# Altium schematic symbol library SN74LVC4245ADBR.SchLib: 2 symbols
Pins are listed as number, name and electrical type; pins without a type are passive.

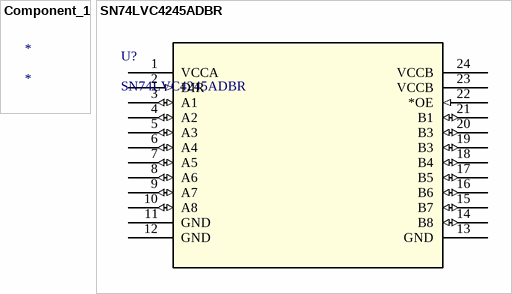
[diagram p0: symbols Component_1 to SN74LVC4245ADBR]

## Component_1
designator *

## SN74LVC4245ADBR
designator U?
Octal Bus Transceiver And 3.3-V To 5-V Shifter With 3-State Outputs; Manufacturer: Texas Instruments; INDUSTRY_STD_PKG_TYPE: SSOP; FAMILY_NAME: DIRECTION CONTROL DUAL SUPPLY TRANSLATOR; PIN_COUNT: 24; PACKAGE_DESIGNATOR: DB; Datasheet_URL: http://www.ti.com/lit/gpn/SN74LVC4245A; GENERIC_PART_NUMBER: SN74LVC4245A; Vendor: Texas Instruments; Manufacturer_Part_Number: SN74LVC4245ADBR; Copyright: Copyright (C) 2018 Accelerated Designs. All rights reserved; RefDes: RefDes; Type: DEV
footprint DB24
pins: 1 VCCA (power), 2 DIR (in), 3 A1 (io), 4 A2 (io), 5 A3 (io), 6 A4 (io), 7 A5 (io), 8 A6 (io), 9 A7 (io), 10 A8 (io), 11 GND (power), 12 GND (power), 13 GND (power), 14 B8 (io), 15 B7 (io), 16 B6 (io), 17 B5 (io), 18 B4 (io), 19 B3 (io), 20 B3 (io), 21 B1 (io), 22 *OE (in), 23 VCCB (power), 24 VCCB (power)